# Altium schematic symbol library 牛子开关.SchLib: 1 symbol
Pins are listed as number, name and electrical type; pins without a type are passive.

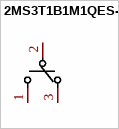
[diagram p0: symbol 2MS3T1B1M1QES-5]

## 2MS3T1B1M1QES-5
designator SW??  (value not drawn)
Manufacturer: Dailywell(德利威); Add into BOM: yes; Contact Current: 3A; Voltage Rating (AC): 120V; Voltage Rating (DC): 28V; Circuit: 单刀双掷; Mechanical Life: 30000; Actuator Type: 圆柱钮柄; Pin Style: 焊片; Name: 2MS3T1B1M1QES-5; Symbol: 2MS3T1B1M1QES-5; Device: 2MS3T1B1M1QES-5; LCSC Part Name: 2M系列 钮子开关 摇头开关 3件套; Supplier Part: C908281; Manufacturer Part: 2MS3T1B1M1QES-5; Supplier Footprint: 插件; JLCPCB Part Class: Extended Part; Datasheet: https://atta.szlcsc.com/upload/public/pdf/source/20200324/C496170_954A7394085DEA4CF4EC9443DF401EBE.pdf; Supplier: LCSC; Convert to PCB: yes; Mounting Style: 直插; Operating Temperature: -40℃~+85℃
footprint SW-TH_2MS3T1B1M1QES-5
3D model SW-TH_2MS3T1B1M1QES-5
pins: 1, 2, 3